# EAGLE library part 6BQ7 (library tubes_pmillett)
Dual triode, base 9AJ (6DJ8, 6922, etc.)
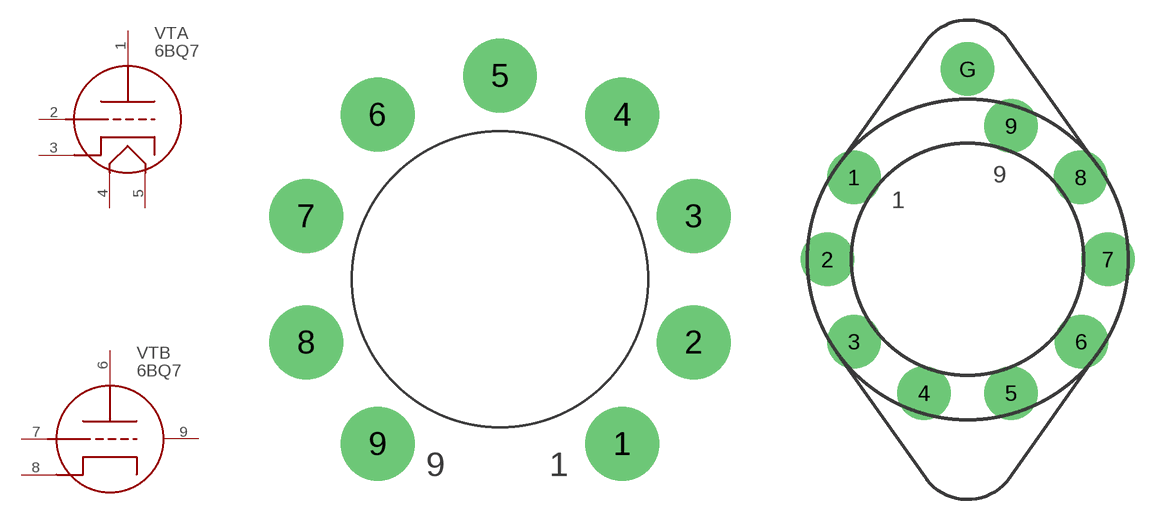
[diagram p145: symbol with the pads of NOVAL_PCB; footprints NOVAL_PCB, NOVAL_BELTON_SH]

Designator prefix VT; gates A=TRIODE_9AJ_A-1 B=TRIODE_9AJ_B-1

## 6BQ7_TOP  [NOVAL_PCB]
1  A:1  pas
2  A:2  pas
3  A:3  pas
4  A:4  pas
5  A:5  pas
6  B:6  pas
7  B:7  pas
8  B:8  pas
9  B:9  pas

## 6BQ7_TOP_SH  [NOVAL_BELTON_SH]
Pads as for NOVAL_PCB

## 6BQ7  [NOVAL_BOTTOM_PCB]
Pads as for NOVAL_PCB

## Footprint NOVAL_PCB (pad centres in mm)
TUBE SOCKET, NOVAL PCB
drill 1.93 pad 3.81: 1 6.299,-8.484; 2 9.982,-3.251; 3 9.982,3.251; 4 6.299,8.484; 5 0,10.49; 6 -6.299,8.484; 7 -9.982,3.251; 8 -9.982,-3.251; 9 -6.299,-8.484

## Footprint NOVAL_BELTON_SH (pad centres in mm)
9-pin Noval tube socket with shield connection Belton VT9-PT-C
drill 1.8 pad 4: 1 -8.5,6.15; 2 -10.5,0; 3 -8.5,-6.15; 4 -3.25,-10; 5 3.25,-10; 6 8.5,-6.15; 7 10.5,0; 8 8.45,6.15; 9 3.25,10
drill 1.422 pad 4: G 0,14.25

## Footprint NOVAL_BOTTOM_PCB (pad centres in mm)
Standard 9-pin socket (Chinese ceramic, Belton, etc.), mounted bottom side
drill 1.93 pad 3.81: 1 -6.299,-8.484; 2 -9.982,-3.251; 3 -9.982,3.251; 4 -6.299,8.484; 5 0,10.49; 6 6.299,8.484; 7 9.982,3.251; 8 9.982,-3.251; 9 6.299,-8.484